# Altium schematic symbol library WE-SPXO.SchLib: 254 symbols (part 4 of 5)
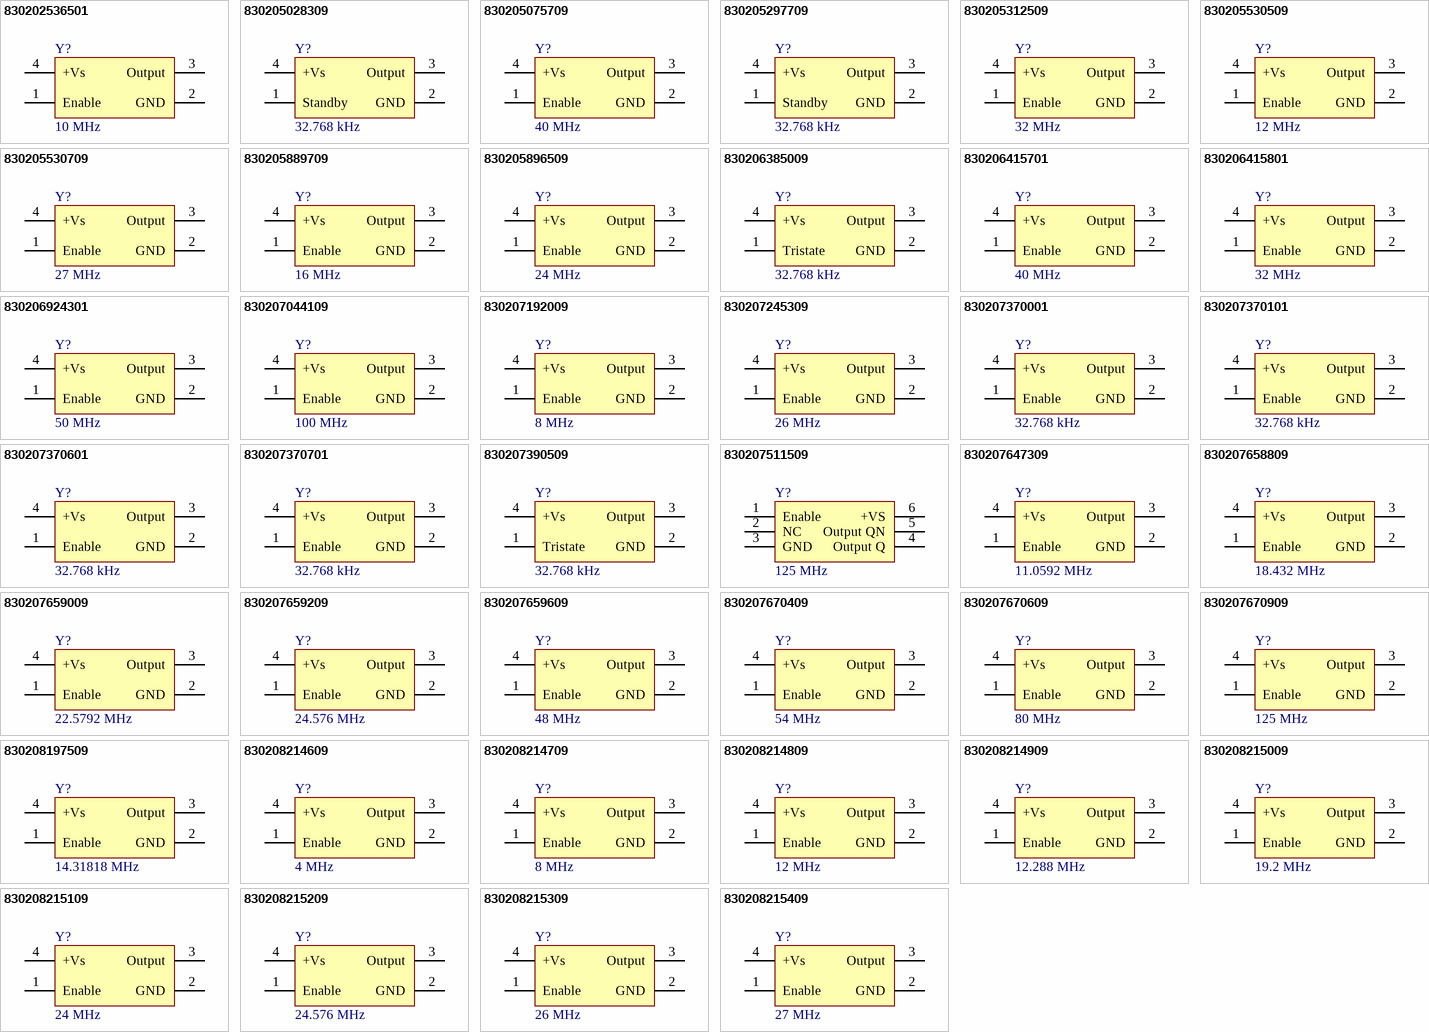
[diagram p9: symbols 830202536501 to 830208215409]

## 830207044109
designator Y?, comment 100 MHz
WE-SPXO Simple Packaged Quartz Oscillator, CFPS-39, 100 MHz, 25 ppm, 3.3 V; Manufacturer Part Number: 830207044109; Manufacturer: Wurth Elektronik; Frequency Stability: 25 ppm; Output Logic: CMOS; Supply Voltage: 3.3 V; Category: Oscillators; Match Code: WE-SPXO; ComponentLink1Description: Website Link; ComponentLink1URL: https://www.we-online.com/redexpert/article/830207044109?ad; ComponentLink2Description: Datasheet Link; ComponentLink2URL: https://www.we-online.com/redexpert/spec/830207044109?ad; Mount: Surface Mount; Min Operating Temperature: -40 °C; Max Operating Temperature: 85 °C; Packaging: Tape and Reel; Case/Size Code: CFPS-39; Length: 3.2 mm; Width: 2.5 mm; Height: 1.2 mm; Application: Processor, Ethernet, PCI Express, PHY; Frequency: 100 MHz
footprint WE-SPXO_CFPS-39
pins: 1 Enable, 2 GND, 3 Output, 4 +Vs

## 830207192009
designator Y?, comment 8 MHz
WE-SPXO Simple Packaged Quartz Oscillator, CFPS-39, 8 MHz, 25 ppm, 3.3 V; Manufacturer Part Number: 830207192009; Manufacturer: Wurth Elektronik; Frequency Stability: 25 ppm; Output Logic: CMOS; Supply Voltage: 3.3 V; Category: Oscillators; Match Code: WE-SPXO; ComponentLink1Description: Website Link; ComponentLink1URL: https://www.we-online.com/redexpert/article/830207192009?ad; ComponentLink2Description: Datasheet Link; ComponentLink2URL: https://www.we-online.com/redexpert/spec/830207192009?ad; Mount: Surface Mount; Min Operating Temperature: -40 °C; Max Operating Temperature: 85 °C; Packaging: Tape and Reel; Case/Size Code: CFPS-39; Length: 3.2 mm; Width: 2.5 mm; Height: 1.2 mm; Application: Processor, UART; Frequency: 8 MHz
footprint WE-SPXO_CFPS-39
pins: 1 Enable, 2 GND, 3 Output, 4 +Vs

## 830207245309
designator Y?, comment 26 MHz
WE-SPXO Simple Packaged Quartz Oscillator, CFPS-39, 26 MHz, 25 ppm, 3.3 V; Manufacturer Part Number: 830207245309; Manufacturer: Wurth Elektronik; Frequency Stability: 25 ppm; Output Logic: CMOS; Supply Voltage: 3.3 V; Category: Oscillators; Match Code: WE-SPXO; ComponentLink1Description: Website Link; ComponentLink1URL: https://www.we-online.com/redexpert/article/830207245309?ad; ComponentLink2Description: Datasheet Link; ComponentLink2URL: https://www.we-online.com/redexpert/spec/830207245309?ad; Mount: Surface Mount; Min Operating Temperature: -40 °C; Max Operating Temperature: 85 °C; Packaging: Tape and Reel; Case/Size Code: CFPS-39; Length: 3.2 mm; Width: 2.5 mm; Height: 1.2 mm; Application: CAN, Bluetooth, GPS, Small Cell; Frequency: 26 MHz
footprint WE-SPXO_CFPS-39
pins: 1 Enable, 2 GND, 3 Output, 4 +Vs

## 830207370001
designator Y?, comment 32.768 kHz
WE-SPXO Simple Packaged Quartz Oscillator, IQXO-402, 32.768 kHz, 30 ppm, 3.3 V; Manufacturer Part Number: 830207370001; Manufacturer: Wurth Elektronik; Frequency Stability: 30 ppm; Output Logic: CMOS; Supply Voltage: 3.3 V; Category: Oscillators; Match Code: WE-SPXO; ComponentLink1Description: Website Link; ComponentLink1URL: https://www.we-online.com/redexpert/article/830207370001?ad; ComponentLink2Description: Datasheet Link; ComponentLink2URL: https://www.we-online.com/redexpert/spec/830207370001?ad; Mount: Surface Mount; Min Operating Temperature: -40 °C; Max Operating Temperature: 85 °C; Packaging: Tape and Reel; Case/Size Code: IQXO-402; Length: 2 mm; Width: 1.6 mm; Height: 0.8 mm; Application: Real Time Clock; Frequency: 32.768 kHz
footprint WE-SPXO_IQXO-402
pins: 1 Enable, 2 GND, 3 Output, 4 +Vs

## 830207370101
designator Y?, comment 32.768 kHz
WE-SPXO Simple Packaged Quartz Oscillator, IQXO-402, 32.768 kHz, 100 ppm, 3.3 V; Manufacturer Part Number: 830207370101; Manufacturer: Wurth Elektronik; Frequency Stability: 100 ppm; Output Logic: CMOS; Supply Voltage: 3.3 V; Category: Oscillators; Match Code: WE-SPXO; ComponentLink1Description: Website Link; ComponentLink1URL: https://www.we-online.com/redexpert/article/830207370101?ad; ComponentLink2Description: Datasheet Link; ComponentLink2URL: https://www.we-online.com/redexpert/spec/830207370101?ad; Mount: Surface Mount; Min Operating Temperature: -40 °C; Max Operating Temperature: 125 °C; Packaging: Tape and Reel; Case/Size Code: IQXO-402; Length: 2 mm; Width: 1.6 mm; Height: 0.8 mm; Application: Real Time Clock; Frequency: 32.768 kHz
footprint WE-SPXO_IQXO-402
pins: 1 Enable, 2 GND, 3 Output, 4 +Vs

## 830207370601
designator Y?, comment 32.768 kHz
WE-SPXO Simple Packaged Quartz Oscillator, IQXO-404, 32.768 kHz, 30 ppm, 1.8 V; Manufacturer Part Number: 830207370601; Manufacturer: Wurth Elektronik; Frequency Stability: 30 ppm; Output Logic: CMOS; Supply Voltage: 1.8 V; Category: Oscillators; Match Code: WE-SPXO; ComponentLink1Description: Website Link; ComponentLink1URL: https://www.we-online.com/redexpert/article/830207370601?ad; ComponentLink2Description: Datasheet Link; ComponentLink2URL: https://www.we-online.com/redexpert/spec/830207370601?ad; Mount: Surface Mount; Min Operating Temperature: -40 °C; Max Operating Temperature: 85 °C; Packaging: Tape and Reel; Case/Size Code: IQXO-404; Length: 2 mm; Width: 1.6 mm; Height: 0.8 mm; Application: Real Time Clock; Frequency: 32.768 kHz
footprint WE-SPXO_IQXO-404
pins: 1 Enable, 2 GND, 3 Output, 4 +Vs

## 830207370701
designator Y?, comment 32.768 kHz
WE-SPXO Simple Packaged Quartz Oscillator, IQXO-404, 32.768 kHz, 100 ppm, 1.8 V; Manufacturer Part Number: 830207370701; Manufacturer: Wurth Elektronik; Frequency Stability: 100 ppm; Output Logic: CMOS; Supply Voltage: 1.8 V; Category: Oscillators; Match Code: WE-SPXO; ComponentLink1Description: Website Link; ComponentLink1URL: https://www.we-online.com/redexpert/article/830207370701?ad; ComponentLink2Description: Datasheet Link; ComponentLink2URL: https://www.we-online.com/redexpert/spec/830207370701?ad; Mount: Surface Mount; Min Operating Temperature: -40 °C; Max Operating Temperature: 125 °C; Packaging: Tape and Reel; Case/Size Code: IQXO-404; Length: 2 mm; Width: 1.6 mm; Height: 0.8 mm; Application: Real Time Clock; Frequency: 32.768 kHz
footprint WE-SPXO_IQXO-404
pins: 1 Enable, 2 GND, 3 Output, 4 +Vs

## 830207390509
designator Y?, comment 32.768 kHz
WE-SPXO Simple Packaged Quartz Oscillator, CFPS-109, 32.768 kHz, 30 ppm, 3.3 V; Manufacturer Part Number: 830207390509; Manufacturer: Wurth Elektronik; Frequency Stability: 30 ppm; Output Logic: CMOS; Supply Voltage: 3.3 V; Category: Oscillators; Match Code: WE-SPXO; ComponentLink1Description: Website Link; ComponentLink1URL: https://www.we-online.com/redexpert/article/830207390509?ad; ComponentLink2Description: Datasheet Link; ComponentLink2URL: https://www.we-online.com/redexpert/spec/830207390509?ad; Mount: Surface Mount; Min Operating Temperature: -40 °C; Max Operating Temperature: 85 °C; Packaging: Tape and Reel; Case/Size Code: CFPS-109; Length: 2.5 mm; Width: 2 mm; Height: 0.95 mm; Application: Real Time Clock; Frequency: 32.768 kHz
footprint WE-SPXO_CFPS-109
pins: 1 Tristate, 2 GND, 3 Output, 4 +Vs

## 830207511509
designator Y?, comment 125 MHz
WE-SPXO Simple Packaged Quartz Oscillator, IQXO-618-25, 125 MHz, 50 ppm, 2.5 V; Manufacturer Part Number: 830207511509; Manufacturer: Wurth Elektronik; Frequency Stability: 50 ppm; Output Logic: LVDS; Supply Voltage: 2.5 V; Category: Oscillators; Match Code: WE-SPXO; ComponentLink1Description: Website Link; ComponentLink1URL: https://www.we-online.com/redexpert/article/830207511509?ad; ComponentLink2Description: Datasheet Link; ComponentLink2URL: https://www.we-online.com/redexpert/spec/830207511509?ad; Mount: Surface Mount; Min Operating Temperature: -40 °C; Max Operating Temperature: 105 °C; Packaging: Tape and Reel; Case/Size Code: IQXO-618-25; Length: 3.2 mm; Width: 2.5 mm; Height: 1.1 mm; Application: Ethernet, PHY; Frequency: 125 MHz
footprint WE-SPXO_IQXO-618-25
pins: 1 Enable, 2 NC, 3 GND, 4 Output Q, 5 Output QN, 6 +VS

## 830207647309
designator Y?, comment 11.0592 MHz
WE-SPXO Simple Packaged Quartz Oscillator, CFPS-39, 11.0592 MHz, 25 ppm, 3.3 V; Manufacturer Part Number: 830207647309; Manufacturer: Wurth Elektronik; Frequency Stability: 25 ppm; Output Logic: CMOS; Supply Voltage: 3.3 V; Category: Oscillators; Match Code: WE-SPXO; ComponentLink1Description: Website Link; ComponentLink1URL: https://www.we-online.com/redexpert/article/830207647309?ad; ComponentLink2Description: Datasheet Link; ComponentLink2URL: https://www.we-online.com/redexpert/spec/830207647309?ad; Mount: Surface Mount; Min Operating Temperature: -40 °C; Max Operating Temperature: 85 °C; Packaging: Tape and Reel; Case/Size Code: CFPS-39; Length: 3.2 mm; Width: 2.5 mm; Height: 1.2 mm; Application: Processor, UART; Frequency: 11.0592 MHz
footprint WE-SPXO_CFPS-39
pins: 1 Enable, 2 GND, 3 Output, 4 +Vs

## 830207658809
designator Y?, comment 18.432 MHz
WE-SPXO Simple Packaged Quartz Oscillator, CFPS-39, 18.432 MHz, 25 ppm, 3.3 V; Manufacturer Part Number: 830207658809; Manufacturer: Wurth Elektronik; Frequency Stability: 25 ppm; Output Logic: CMOS; Supply Voltage: 3.3 V; Category: Oscillators; Match Code: WE-SPXO; ComponentLink1Description: Website Link; ComponentLink1URL: https://www.we-online.com/redexpert/article/830207658809?ad; ComponentLink2Description: Datasheet Link; ComponentLink2URL: https://www.we-online.com/redexpert/spec/830207658809?ad; Mount: Surface Mount; Min Operating Temperature: -40 °C; Max Operating Temperature: 85 °C; Packaging: Tape and Reel; Case/Size Code: CFPS-39; Length: 3.2 mm; Width: 2.5 mm; Height: 1.2 mm; Application: UART, Audio; Frequency: 18.432 MHz
footprint WE-SPXO_CFPS-39
pins: 1 Enable, 2 GND, 3 Output, 4 +Vs

## 830207659009
designator Y?, comment 22.5792 MHz
WE-SPXO Simple Packaged Quartz Oscillator, CFPS-39, 22.5792 MHz, 25 ppm, 3.3 V; Manufacturer Part Number: 830207659009; Manufacturer: Wurth Elektronik; Frequency Stability: 25 ppm; Output Logic: CMOS; Supply Voltage: 3.3 V; Category: Oscillators; Match Code: WE-SPXO; ComponentLink1Description: Website Link; ComponentLink1URL: https://www.we-online.com/redexpert/article/830207659009?ad; ComponentLink2Description: Datasheet Link; ComponentLink2URL: https://www.we-online.com/redexpert/spec/830207659009?ad; Mount: Surface Mount; Min Operating Temperature: -40 °C; Max Operating Temperature: 85 °C; Packaging: Tape and Reel; Case/Size Code: CFPS-39; Length: 3.2 mm; Width: 2.5 mm; Height: 1.2 mm; Application: Audio; Frequency: 22.5792 MHz
footprint WE-SPXO_CFPS-39
pins: 1 Enable, 2 GND, 3 Output, 4 +Vs

## 830207659209
designator Y?, comment 24.576 MHz
WE-SPXO Simple Packaged Quartz Oscillator, CFPS-39, 24.576 MHz, 25 ppm, 3.3 V; Manufacturer Part Number: 830207659209; Manufacturer: Wurth Elektronik; Frequency Stability: 25 ppm; Output Logic: CMOS; Supply Voltage: 3.3 V; Category: Oscillators; Match Code: WE-SPXO; ComponentLink1Description: Website Link; ComponentLink1URL: https://www.we-online.com/redexpert/article/830207659209?ad; ComponentLink2Description: Datasheet Link; ComponentLink2URL: https://www.we-online.com/redexpert/spec/830207659209?ad; Mount: Surface Mount; Min Operating Temperature: -40 °C; Max Operating Temperature: 85 °C; Packaging: Tape and Reel; Case/Size Code: CFPS-39; Length: 3.2 mm; Width: 2.5 mm; Height: 1.2 mm; Application: UART, Audio; Frequency: 24.576 MHz
footprint WE-SPXO_CFPS-39
pins: 1 Enable, 2 GND, 3 Output, 4 +Vs

## 830207659609
designator Y?, comment 48 MHz
WE-SPXO Simple Packaged Quartz Oscillator, CFPS-39, 48 MHz, 25 ppm, 3.3 V; Manufacturer Part Number: 830207659609; Manufacturer: Wurth Elektronik; Frequency Stability: 25 ppm; Output Logic: CMOS; Supply Voltage: 3.3 V; Category: Oscillators; Match Code: WE-SPXO; ComponentLink1Description: Website Link; ComponentLink1URL: https://www.we-online.com/redexpert/article/830207659609?ad; ComponentLink2Description: Datasheet Link; ComponentLink2URL: https://www.we-online.com/redexpert/spec/830207659609?ad; Mount: Surface Mount; Min Operating Temperature: -40 °C; Max Operating Temperature: 85 °C; Packaging: Tape and Reel; Case/Size Code: CFPS-39; Length: 3.2 mm; Width: 2.5 mm; Height: 1.2 mm; Application: Processor, USB, Wi-Fi; Frequency: 48 MHz
footprint WE-SPXO_CFPS-39
pins: 1 Enable, 2 GND, 3 Output, 4 +Vs

## 830207670409
designator Y?, comment 54 MHz
WE-SPXO Simple Packaged Quartz Oscillator, CFPS-39, 54 MHz, 25 ppm, 3.3 V; Manufacturer Part Number: 830207670409; Manufacturer: Wurth Elektronik; Frequency Stability: 25 ppm; Output Logic: CMOS; Supply Voltage: 3.3 V; Category: Oscillators; Match Code: WE-SPXO; ComponentLink1Description: Website Link; ComponentLink1URL: https://www.we-online.com/redexpert/article/830207670409?ad; ComponentLink2Description: Datasheet Link; ComponentLink2URL: https://www.we-online.com/redexpert/spec/830207670409?ad; Mount: Surface Mount; Min Operating Temperature: -40 °C; Max Operating Temperature: 85 °C; Packaging: Tape and Reel; Case/Size Code: CFPS-39; Length: 3.2 mm; Width: 2.5 mm; Height: 1.2 mm; Application: Processor; Frequency: 54 MHz
footprint WE-SPXO_CFPS-39
pins: 1 Enable, 2 GND, 3 Output, 4 +Vs

## 830207670609
designator Y?, comment 80 MHz
WE-SPXO Simple Packaged Quartz Oscillator, CFPS-39, 80 MHz, 25 ppm, 3.3 V; Manufacturer Part Number: 830207670609; Manufacturer: Wurth Elektronik; Frequency Stability: 25 ppm; Output Logic: CMOS; Supply Voltage: 3.3 V; Category: Oscillators; Match Code: WE-SPXO; ComponentLink1Description: Website Link; ComponentLink1URL: https://www.we-online.com/redexpert/article/830207670609?ad; ComponentLink2Description: Datasheet Link; ComponentLink2URL: https://www.we-online.com/redexpert/spec/830207670609?ad; Mount: Surface Mount; Min Operating Temperature: -40 °C; Max Operating Temperature: 85 °C; Packaging: Tape and Reel; Case/Size Code: CFPS-39; Length: 3.2 mm; Width: 2.5 mm; Height: 1.2 mm; Application: Processor, Audio; Frequency: 80 MHz
footprint WE-SPXO_CFPS-39
pins: 1 Enable, 2 GND, 3 Output, 4 +Vs

## 830207670909
designator Y?, comment 125 MHz
WE-SPXO Simple Packaged Quartz Oscillator, CFPS-39, 125 MHz, 25 ppm, 3.3 V; Manufacturer Part Number: 830207670909; Manufacturer: Wurth Elektronik; Frequency Stability: 25 ppm; Output Logic: CMOS; Supply Voltage: 3.3 V; Category: Oscillators; Match Code: WE-SPXO; ComponentLink1Description: Website Link; ComponentLink1URL: https://www.we-online.com/redexpert/article/830207670909?ad; ComponentLink2Description: Datasheet Link; ComponentLink2URL: https://www.we-online.com/redexpert/spec/830207670909?ad; Mount: Surface Mount; Min Operating Temperature: -40 °C; Max Operating Temperature: 85 °C; Packaging: Tape and Reel; Case/Size Code: CFPS-39; Length: 3.2 mm; Width: 2.5 mm; Height: 1.2 mm; Application: Ethernet, PHY; Frequency: 125 MHz
footprint WE-SPXO_CFPS-39
pins: 1 Enable, 2 GND, 3 Output, 4 +Vs

## 830208197509
designator Y?, comment 14.31818 MHz
WE-SPXO Simple Packaged Quartz Oscillator, CFPS-39, 14.31818 MHz, 25 ppm, 3.3 V; Manufacturer Part Number: 830208197509; Manufacturer: Wurth Elektronik; Frequency Stability: 25 ppm; Output Logic: CMOS; Supply Voltage: 3.3 V; Category: Oscillators; Match Code: WE-SPXO; ComponentLink1Description: Website Link; ComponentLink1URL: https://www.we-online.com/redexpert/article/830208197509?ad; ComponentLink2Description: Datasheet Link; ComponentLink2URL: https://www.we-online.com/redexpert/spec/830208197509?ad; Mount: Surface Mount; Min Operating Temperature: -40 °C; Max Operating Temperature: 85 °C; Packaging: Tape and Reel; Case/Size Code: CFPS-39; Length: 3.2 mm; Width: 2.5 mm; Height: 1.2 mm; Application: Processor; Frequency: 14.31818 MHz
footprint WE-SPXO_CFPS-39
pins: 1 Enable, 2 GND, 3 Output, 4 +Vs

## 830208214609
designator Y?, comment 4 MHz
WE-SPXO Simple Packaged Quartz Oscillator, IQXO-540, 4 MHz, 25 ppm, 3.3 V; Manufacturer Part Number: 830208214609; Manufacturer: Wurth Elektronik; Frequency Stability: 25 ppm; Output Logic: CMOS; Supply Voltage: 3.3 V; Category: Oscillators; Match Code: WE-SPXO; ComponentLink1Description: Website Link; ComponentLink1URL: https://www.we-online.com/redexpert/article/830208214609?ad; ComponentLink2Description: Datasheet Link; ComponentLink2URL: https://www.we-online.com/redexpert/spec/830208214609?ad; Mount: Surface Mount; Min Operating Temperature: -20 °C; Max Operating Temperature: 70 °C; Packaging: Tape and Reel; Case/Size Code: IQXO-540; Length: 2 mm; Width: 1.6 mm; Height: 0.8 mm; Application: CAN, Processor; Frequency: 4 MHz
footprint WE-SPXO_IQXO-540
pins: 1 Enable, 2 GND, 3 Output, 4 +Vs

## 830208214709
designator Y?, comment 8 MHz
WE-SPXO Simple Packaged Quartz Oscillator, IQXO-540, 8 MHz, 25 ppm, 3.3 V; Manufacturer Part Number: 830208214709; Manufacturer: Wurth Elektronik; Frequency Stability: 25 ppm; Output Logic: CMOS; Supply Voltage: 3.3 V; Category: Oscillators; Match Code: WE-SPXO; ComponentLink1Description: Website Link; ComponentLink1URL: https://www.we-online.com/redexpert/article/830208214709?ad; ComponentLink2Description: Datasheet Link; ComponentLink2URL: https://www.we-online.com/redexpert/spec/830208214709?ad; Mount: Surface Mount; Min Operating Temperature: -20 °C; Max Operating Temperature: 70 °C; Packaging: Tape and Reel; Case/Size Code: IQXO-540; Length: 2 mm; Width: 1.6 mm; Height: 0.8 mm; Application: Processor, UART; Frequency: 8 MHz
footprint WE-SPXO_IQXO-540
pins: 1 Enable, 2 GND, 3 Output, 4 +Vs

## 830208214809
designator Y?, comment 12 MHz
WE-SPXO Simple Packaged Quartz Oscillator, IQXO-540, 12 MHz, 25 ppm, 3.3 V; Manufacturer Part Number: 830208214809; Manufacturer: Wurth Elektronik; Frequency Stability: 25 ppm; Output Logic: CMOS; Supply Voltage: 3.3 V; Category: Oscillators; Match Code: WE-SPXO; ComponentLink1Description: Website Link; ComponentLink1URL: https://www.we-online.com/redexpert/article/830208214809?ad; ComponentLink2Description: Datasheet Link; ComponentLink2URL: https://www.we-online.com/redexpert/spec/830208214809?ad; Mount: Surface Mount; Min Operating Temperature: -20 °C; Max Operating Temperature: 70 °C; Packaging: Tape and Reel; Case/Size Code: IQXO-540; Length: 2 mm; Width: 1.6 mm; Height: 0.8 mm; Application: Processor, USB, CAN; Frequency: 12 MHz
footprint WE-SPXO_IQXO-540
pins: 1 Enable, 2 GND, 3 Output, 4 +Vs

## 830208214909
designator Y?, comment 12.288 MHz
WE-SPXO Simple Packaged Quartz Oscillator, IQXO-540, 12.288 MHz, 25 ppm, 3.3 V; Manufacturer Part Number: 830208214909; Manufacturer: Wurth Elektronik; Frequency Stability: 25 ppm; Output Logic: CMOS; Supply Voltage: 3.3 V; Category: Oscillators; Match Code: WE-SPXO; ComponentLink1Description: Website Link; ComponentLink1URL: https://www.we-online.com/redexpert/article/830208214909?ad; ComponentLink2Description: Datasheet Link; ComponentLink2URL: https://www.we-online.com/redexpert/spec/830208214909?ad; Mount: Surface Mount; Min Operating Temperature: -20 °C; Max Operating Temperature: 70 °C; Packaging: Tape and Reel; Case/Size Code: IQXO-540; Length: 2 mm; Width: 1.6 mm; Height: 0.8 mm; Application: UART, Audio; Frequency: 12.288 MHz
footprint WE-SPXO_IQXO-540
pins: 1 Enable, 2 GND, 3 Output, 4 +Vs

## 830208215009
designator Y?, comment 19.2 MHz
WE-SPXO Simple Packaged Quartz Oscillator, IQXO-540, 19.2 MHz, 25 ppm, 3.3 V; Manufacturer Part Number: 830208215009; Manufacturer: Wurth Elektronik; Frequency Stability: 25 ppm; Output Logic: CMOS; Supply Voltage: 3.3 V; Category: Oscillators; Match Code: WE-SPXO; ComponentLink1Description: Website Link; ComponentLink1URL: https://www.we-online.com/redexpert/article/830208215009?ad; ComponentLink2Description: Datasheet Link; ComponentLink2URL: https://www.we-online.com/redexpert/spec/830208215009?ad; Mount: Surface Mount; Min Operating Temperature: -20 °C; Max Operating Temperature: 70 °C; Packaging: Tape and Reel; Case/Size Code: IQXO-540; Length: 2 mm; Width: 1.6 mm; Height: 0.8 mm; Application: UART, 3G/4G/5G, Small Cell; Frequency: 19.2 MHz
footprint WE-SPXO_IQXO-540
pins: 1 Enable, 2 GND, 3 Output, 4 +Vs

## 830208215109
designator Y?, comment 24 MHz
WE-SPXO Simple Packaged Quartz Oscillator, IQXO-540, 24 MHz, 25 ppm, 3.3 V; Manufacturer Part Number: 830208215109; Manufacturer: Wurth Elektronik; Frequency Stability: 25 ppm; Output Logic: CMOS; Supply Voltage: 3.3 V; Category: Oscillators; Match Code: WE-SPXO; ComponentLink1Description: Website Link; ComponentLink1URL: https://www.we-online.com/redexpert/article/830208215109?ad; ComponentLink2Description: Datasheet Link; ComponentLink2URL: https://www.we-online.com/redexpert/spec/830208215109?ad; Mount: Surface Mount; Min Operating Temperature: -20 °C; Max Operating Temperature: 70 °C; Packaging: Tape and Reel; Case/Size Code: IQXO-540; Length: 2 mm; Width: 1.6 mm; Height: 0.8 mm; Application: Processor, USB, Bluetooth; Frequency: 24 MHz
footprint WE-SPXO_IQXO-540
pins: 1 Enable, 2 GND, 3 Output, 4 +Vs

## 830208215209
designator Y?, comment 24.576 MHz
WE-SPXO Simple Packaged Quartz Oscillator, IQXO-540, 24.576 MHz, 25 ppm, 3.3 V; Manufacturer Part Number: 830208215209; Manufacturer: Wurth Elektronik; Frequency Stability: 25 ppm; Output Logic: CMOS; Supply Voltage: 3.3 V; Category: Oscillators; Match Code: WE-SPXO; ComponentLink1Description: Website Link; ComponentLink1URL: https://www.we-online.com/redexpert/article/830208215209?ad; ComponentLink2Description: Datasheet Link; ComponentLink2URL: https://www.we-online.com/redexpert/spec/830208215209?ad; Mount: Surface Mount; Min Operating Temperature: -20 °C; Max Operating Temperature: 70 °C; Packaging: Tape and Reel; Case/Size Code: IQXO-540; Length: 2 mm; Width: 1.6 mm; Height: 0.8 mm; Application: UART, Audio; Frequency: 24.576 MHz
footprint WE-SPXO_IQXO-540
pins: 1 Enable, 2 GND, 3 Output, 4 +Vs

## 830208215309
designator Y?, comment 26 MHz
WE-SPXO Simple Packaged Quartz Oscillator, IQXO-540, 26 MHz, 25 ppm, 3.3 V; Manufacturer Part Number: 830208215309; Manufacturer: Wurth Elektronik; Frequency Stability: 25 ppm; Output Logic: CMOS; Supply Voltage: 3.3 V; Category: Oscillators; Match Code: WE-SPXO; ComponentLink1Description: Website Link; ComponentLink1URL: https://www.we-online.com/redexpert/article/830208215309?ad; ComponentLink2Description: Datasheet Link; ComponentLink2URL: https://www.we-online.com/redexpert/spec/830208215309?ad; Mount: Surface Mount; Min Operating Temperature: -20 °C; Max Operating Temperature: 70 °C; Packaging: Tape and Reel; Case/Size Code: IQXO-540; Length: 2 mm; Width: 1.6 mm; Height: 0.8 mm; Application: CAN, Bluetooth, GPS, Small Cell; Frequency: 26 MHz
footprint WE-SPXO_IQXO-540
pins: 1 Enable, 2 GND, 3 Output, 4 +Vs

## 830208215409
designator Y?, comment 27 MHz
WE-SPXO Simple Packaged Quartz Oscillator, IQXO-540, 27 MHz, 25 ppm, 3.3 V; Manufacturer Part Number: 830208215409; Manufacturer: Wurth Elektronik; Frequency Stability: 25 ppm; Output Logic: CMOS; Supply Voltage: 3.3 V; Category: Oscillators; Match Code: WE-SPXO; ComponentLink1Description: Website Link; ComponentLink1URL: https://www.we-online.com/redexpert/article/830208215409?ad; ComponentLink2Description: Datasheet Link; ComponentLink2URL: https://www.we-online.com/redexpert/spec/830208215409?ad; Mount: Surface Mount; Min Operating Temperature: -20 °C; Max Operating Temperature: 70 °C; Packaging: Tape and Reel; Case/Size Code: IQXO-540; Length: 2 mm; Width: 1.6 mm; Height: 0.8 mm; Application: Processor; Frequency: 27 MHz
footprint WE-SPXO_IQXO-540
pins: 1 Enable, 2 GND, 3 Output, 4 +Vs

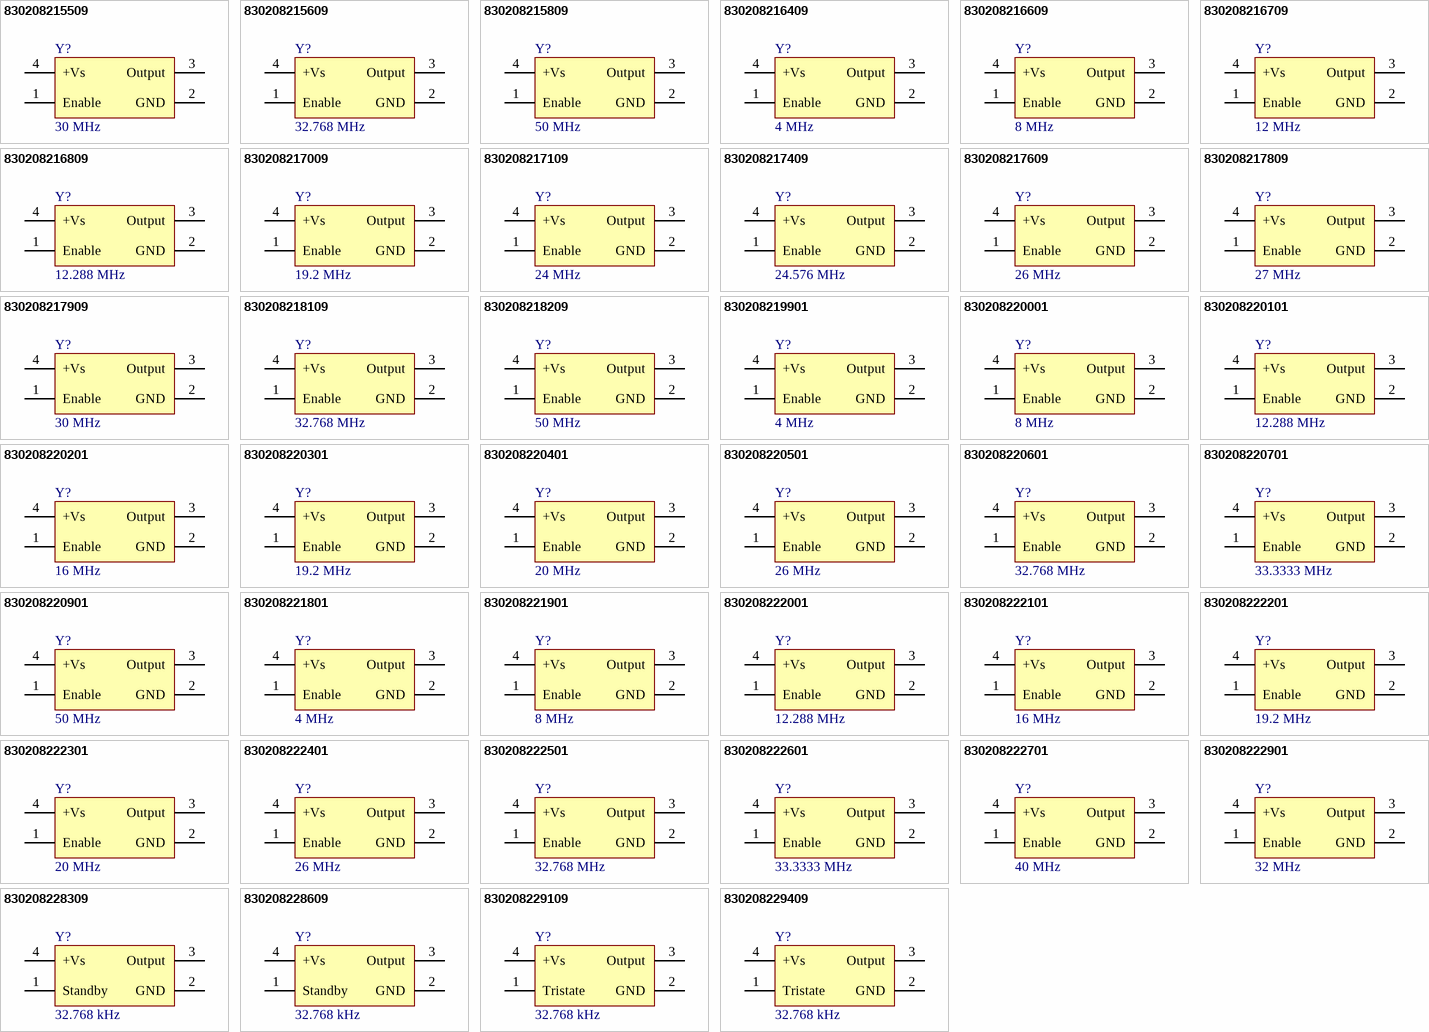
[diagram p5: symbols 830208215509 to 830208229409]

## 830208215509
designator Y?, comment 30 MHz
WE-SPXO Simple Packaged Quartz Oscillator, IQXO-540, 30 MHz, 25 ppm, 3.3 V; Manufacturer Part Number: 830208215509; Manufacturer: Wurth Elektronik; Frequency Stability: 25 ppm; Output Logic: CMOS; Supply Voltage: 3.3 V; Category: Oscillators; Match Code: WE-SPXO; ComponentLink1Description: Website Link; ComponentLink1URL: https://www.we-online.com/redexpert/article/830208215509?ad; ComponentLink2Description: Datasheet Link; ComponentLink2URL: https://www.we-online.com/redexpert/spec/830208215509?ad; Mount: Surface Mount; Min Operating Temperature: -20 °C; Max Operating Temperature: 70 °C; Packaging: Tape and Reel; Case/Size Code: IQXO-540; Length: 2 mm; Width: 1.6 mm; Height: 0.8 mm; Application: Processor, USB; Frequency: 30 MHz
footprint WE-SPXO_IQXO-540
pins: 1 Enable, 2 GND, 3 Output, 4 +Vs

## 830208215609
designator Y?, comment 32.768 MHz
WE-SPXO Simple Packaged Quartz Oscillator, IQXO-540, 32.768 MHz, 25 ppm, 3.3 V; Manufacturer Part Number: 830208215609; Manufacturer: Wurth Elektronik; Frequency Stability: 25 ppm; Output Logic: CMOS; Supply Voltage: 3.3 V; Category: Oscillators; Match Code: WE-SPXO; ComponentLink1Description: Website Link; ComponentLink1URL: https://www.we-online.com/redexpert/article/830208215609?ad; ComponentLink2Description: Datasheet Link; ComponentLink2URL: https://www.we-online.com/redexpert/spec/830208215609?ad; Mount: Surface Mount; Min Operating Temperature: -20 °C; Max Operating Temperature: 70 °C; Packaging: Tape and Reel; Case/Size Code: IQXO-540; Length: 2 mm; Width: 1.6 mm; Height: 0.8 mm; Application: Processor; Frequency: 32.768 MHz
footprint WE-SPXO_IQXO-540
pins: 1 Enable, 2 GND, 3 Output, 4 +Vs

## 830208215809
designator Y?, comment 50 MHz
WE-SPXO Simple Packaged Quartz Oscillator, IQXO-540, 50 MHz, 25 ppm, 3.3 V; Manufacturer Part Number: 830208215809; Manufacturer: Wurth Elektronik; Frequency Stability: 25 ppm; Output Logic: CMOS; Supply Voltage: 3.3 V; Category: Oscillators; Match Code: WE-SPXO; ComponentLink1Description: Website Link; ComponentLink1URL: https://www.we-online.com/redexpert/article/830208215809?ad; ComponentLink2Description: Datasheet Link; ComponentLink2URL: https://www.we-online.com/redexpert/spec/830208215809?ad; Mount: Surface Mount; Min Operating Temperature: -20 °C; Max Operating Temperature: 70 °C; Packaging: Tape and Reel; Case/Size Code: IQXO-540; Length: 2 mm; Width: 1.6 mm; Height: 0.8 mm; Application: Processor, Ethernet, PCI Express, PHY; Frequency: 50 MHz
footprint WE-SPXO_IQXO-540
pins: 1 Enable, 2 GND, 3 Output, 4 +Vs

## 830208216409
designator Y?, comment 4 MHz
WE-SPXO Simple Packaged Quartz Oscillator, IQXO-542, 4 MHz, 25 ppm, 1.8 V; Manufacturer Part Number: 830208216409; Manufacturer: Wurth Elektronik; Frequency Stability: 25 ppm; Output Logic: CMOS; Supply Voltage: 1.8 V; Category: Oscillators; Match Code: WE-SPXO; ComponentLink1Description: Website Link; ComponentLink1URL: https://www.we-online.com/redexpert/article/830208216409?ad; ComponentLink2Description: Datasheet Link; ComponentLink2URL: https://www.we-online.com/redexpert/spec/830208216409?ad; Mount: Surface Mount; Min Operating Temperature: -20 °C; Max Operating Temperature: 70 °C; Packaging: Tape and Reel; Case/Size Code: IQXO-542; Length: 2 mm; Width: 1.6 mm; Height: 0.8 mm; Application: CAN, Processor; Frequency: 4 MHz
footprint WE-SPXO_IQXO-542
pins: 1 Enable, 2 GND, 3 Output, 4 +Vs

## 830208216609
designator Y?, comment 8 MHz
WE-SPXO Simple Packaged Quartz Oscillator, IQXO-542, 8 MHz, 25 ppm, 1.8 V; Manufacturer Part Number: 830208216609; Manufacturer: Wurth Elektronik; Frequency Stability: 25 ppm; Output Logic: CMOS; Supply Voltage: 1.8 V; Category: Oscillators; Match Code: WE-SPXO; ComponentLink1Description: Website Link; ComponentLink1URL: https://www.we-online.com/redexpert/article/830208216609?ad; ComponentLink2Description: Datasheet Link; ComponentLink2URL: https://www.we-online.com/redexpert/spec/830208216609?ad; Mount: Surface Mount; Min Operating Temperature: -20 °C; Max Operating Temperature: 70 °C; Packaging: Tape and Reel; Case/Size Code: IQXO-542; Length: 2 mm; Width: 1.6 mm; Height: 0.8 mm; Application: Processor, UART; Frequency: 8 MHz
footprint WE-SPXO_IQXO-542
pins: 1 Enable, 2 GND, 3 Output, 4 +Vs

## 830208216709
designator Y?, comment 12 MHz
WE-SPXO Simple Packaged Quartz Oscillator, IQXO-542, 12 MHz, 25 ppm, 1.8 V; Manufacturer Part Number: 830208216709; Manufacturer: Wurth Elektronik; Frequency Stability: 25 ppm; Output Logic: CMOS; Supply Voltage: 1.8 V; Category: Oscillators; Match Code: WE-SPXO; ComponentLink1Description: Website Link; ComponentLink1URL: https://www.we-online.com/redexpert/article/830208216709?ad; ComponentLink2Description: Datasheet Link; ComponentLink2URL: https://www.we-online.com/redexpert/spec/830208216709?ad; Mount: Surface Mount; Min Operating Temperature: -20 °C; Max Operating Temperature: 70 °C; Packaging: Tape and Reel; Case/Size Code: IQXO-542; Length: 2 mm; Width: 1.6 mm; Height: 0.8 mm; Application: Processor, USB, CAN; Frequency: 12 MHz
footprint WE-SPXO_IQXO-542
pins: 1 Enable, 2 GND, 3 Output, 4 +Vs

## 830208216809
designator Y?, comment 12.288 MHz
WE-SPXO Simple Packaged Quartz Oscillator, IQXO-542, 12.288 MHz, 25 ppm, 1.8 V; Manufacturer Part Number: 830208216809; Manufacturer: Wurth Elektronik; Frequency Stability: 25 ppm; Output Logic: CMOS; Supply Voltage: 1.8 V; Category: Oscillators; Match Code: WE-SPXO; ComponentLink1Description: Website Link; ComponentLink1URL: https://www.we-online.com/redexpert/article/830208216809?ad; ComponentLink2Description: Datasheet Link; ComponentLink2URL: https://www.we-online.com/redexpert/spec/830208216809?ad; Mount: Surface Mount; Min Operating Temperature: -20 °C; Max Operating Temperature: 70 °C; Packaging: Tape and Reel; Case/Size Code: IQXO-542; Length: 2 mm; Width: 1.6 mm; Height: 0.8 mm; Application: UART, Audio; Frequency: 12.288 MHz
footprint WE-SPXO_IQXO-542
pins: 1 Enable, 2 GND, 3 Output, 4 +Vs

## 830208217009
designator Y?, comment 19.2 MHz
WE-SPXO Simple Packaged Quartz Oscillator, IQXO-542, 19.2 MHz, 25 ppm, 1.8 V; Manufacturer Part Number: 830208217009; Manufacturer: Wurth Elektronik; Frequency Stability: 25 ppm; Output Logic: CMOS; Supply Voltage: 1.8 V; Category: Oscillators; Match Code: WE-SPXO; ComponentLink1Description: Website Link; ComponentLink1URL: https://www.we-online.com/redexpert/article/830208217009?ad; ComponentLink2Description: Datasheet Link; ComponentLink2URL: https://www.we-online.com/redexpert/spec/830208217009?ad; Mount: Surface Mount; Min Operating Temperature: -20 °C; Max Operating Temperature: 70 °C; Packaging: Tape and Reel; Case/Size Code: IQXO-542; Length: 2 mm; Width: 1.6 mm; Height: 0.8 mm; Application: UART, 3G/4G/5G, Small Cell; Frequency: 19.2 MHz
footprint WE-SPXO_IQXO-542
pins: 1 Enable, 2 GND, 3 Output, 4 +Vs

## 830208217109
designator Y?, comment 24 MHz
WE-SPXO Simple Packaged Quartz Oscillator, IQXO-542, 24 MHz, 25 ppm, 1.8 V; Manufacturer Part Number: 830208217109; Manufacturer: Wurth Elektronik; Frequency Stability: 25 ppm; Output Logic: CMOS; Supply Voltage: 1.8 V; Category: Oscillators; Match Code: WE-SPXO; ComponentLink1Description: Website Link; ComponentLink1URL: https://www.we-online.com/redexpert/article/830208217109?ad; ComponentLink2Description: Datasheet Link; ComponentLink2URL: https://www.we-online.com/redexpert/spec/830208217109?ad; Mount: Surface Mount; Min Operating Temperature: -20 °C; Max Operating Temperature: 70 °C; Packaging: Tape and Reel; Case/Size Code: IQXO-542; Length: 2 mm; Width: 1.6 mm; Height: 0.8 mm; Application: Processor, USB, Bluetooth; Frequency: 24 MHz
footprint WE-SPXO_IQXO-542
pins: 1 Enable, 2 GND, 3 Output, 4 +Vs

## 830208217409
designator Y?, comment 24.576 MHz
WE-SPXO Simple Packaged Quartz Oscillator, IQXO-542, 24.576 MHz, 25 ppm, 1.8 V; Manufacturer Part Number: 830208217409; Manufacturer: Wurth Elektronik; Frequency Stability: 25 ppm; Output Logic: CMOS; Supply Voltage: 1.8 V; Category: Oscillators; Match Code: WE-SPXO; ComponentLink1Description: Website Link; ComponentLink1URL: https://www.we-online.com/redexpert/article/830208217409?ad; ComponentLink2Description: Datasheet Link; ComponentLink2URL: https://www.we-online.com/redexpert/spec/830208217409?ad; Mount: Surface Mount; Min Operating Temperature: -20 °C; Max Operating Temperature: 70 °C; Packaging: Tape and Reel; Case/Size Code: IQXO-542; Length: 2 mm; Width: 1.6 mm; Height: 0.8 mm; Application: UART, Audio; Frequency: 24.576 MHz
footprint WE-SPXO_IQXO-542
pins: 1 Enable, 2 GND, 3 Output, 4 +Vs

## 830208217609
designator Y?, comment 26 MHz
WE-SPXO Simple Packaged Quartz Oscillator, IQXO-542, 26 MHz, 25 ppm, 1.8 V; Manufacturer Part Number: 830208217609; Manufacturer: Wurth Elektronik; Frequency Stability: 25 ppm; Output Logic: CMOS; Supply Voltage: 1.8 V; Category: Oscillators; Match Code: WE-SPXO; ComponentLink1Description: Website Link; ComponentLink1URL: https://www.we-online.com/redexpert/article/830208217609?ad; ComponentLink2Description: Datasheet Link; ComponentLink2URL: https://www.we-online.com/redexpert/spec/830208217609?ad; Mount: Surface Mount; Min Operating Temperature: -20 °C; Max Operating Temperature: 70 °C; Packaging: Tape and Reel; Case/Size Code: IQXO-542; Length: 2 mm; Width: 1.6 mm; Height: 0.8 mm; Application: CAN, Bluetooth, GPS, Small Cell; Frequency: 26 MHz
footprint WE-SPXO_IQXO-542
pins: 1 Enable, 2 GND, 3 Output, 4 +Vs

## 830208217809
designator Y?, comment 27 MHz
WE-SPXO Simple Packaged Quartz Oscillator, IQXO-542, 27 MHz, 25 ppm, 1.8 V; Manufacturer Part Number: 830208217809; Manufacturer: Wurth Elektronik; Frequency Stability: 25 ppm; Output Logic: CMOS; Supply Voltage: 1.8 V; Category: Oscillators; Match Code: WE-SPXO; ComponentLink1Description: Website Link; ComponentLink1URL: https://www.we-online.com/redexpert/article/830208217809?ad; ComponentLink2Description: Datasheet Link; ComponentLink2URL: https://www.we-online.com/redexpert/spec/830208217809?ad; Mount: Surface Mount; Min Operating Temperature: -20 °C; Max Operating Temperature: 70 °C; Packaging: Tape and Reel; Case/Size Code: IQXO-542; Length: 2 mm; Width: 1.6 mm; Height: 0.8 mm; Application: Processor; Frequency: 27 MHz
footprint WE-SPXO_IQXO-542
pins: 1 Enable, 2 GND, 3 Output, 4 +Vs

## 830208217909
designator Y?, comment 30 MHz
WE-SPXO Simple Packaged Quartz Oscillator, IQXO-542, 30 MHz, 25 ppm, 1.8 V; Manufacturer Part Number: 830208217909; Manufacturer: Wurth Elektronik; Frequency Stability: 25 ppm; Output Logic: CMOS; Supply Voltage: 1.8 V; Category: Oscillators; Match Code: WE-SPXO; ComponentLink1Description: Website Link; ComponentLink1URL: https://www.we-online.com/redexpert/article/830208217909?ad; ComponentLink2Description: Datasheet Link; ComponentLink2URL: https://www.we-online.com/redexpert/spec/830208217909?ad; Mount: Surface Mount; Min Operating Temperature: -20 °C; Max Operating Temperature: 70 °C; Packaging: Tape and Reel; Case/Size Code: IQXO-542; Length: 2 mm; Width: 1.6 mm; Height: 0.8 mm; Application: Processor, USB; Frequency: 30 MHz
footprint WE-SPXO_IQXO-542
pins: 1 Enable, 2 GND, 3 Output, 4 +Vs

## 830208218109
designator Y?, comment 32.768 MHz
WE-SPXO Simple Packaged Quartz Oscillator, IQXO-542, 32.768 MHz, 25 ppm, 1.8 V; Manufacturer Part Number: 830208218109; Manufacturer: Wurth Elektronik; Frequency Stability: 25 ppm; Output Logic: CMOS; Supply Voltage: 1.8 V; Category: Oscillators; Match Code: WE-SPXO; ComponentLink1Description: Website Link; ComponentLink1URL: https://www.we-online.com/redexpert/article/830208218109?ad; ComponentLink2Description: Datasheet Link; ComponentLink2URL: https://www.we-online.com/redexpert/spec/830208218109?ad; Mount: Surface Mount; Min Operating Temperature: -20 °C; Max Operating Temperature: 70 °C; Packaging: Tape and Reel; Case/Size Code: IQXO-542; Length: 2 mm; Width: 1.6 mm; Height: 0.8 mm; Application: Processor; Frequency: 32.768 MHz
footprint WE-SPXO_IQXO-542
pins: 1 Enable, 2 GND, 3 Output, 4 +Vs

## 830208218209
designator Y?, comment 50 MHz
WE-SPXO Simple Packaged Quartz Oscillator, IQXO-542, 50 MHz, 25 ppm, 1.8 V; Manufacturer Part Number: 830208218209; Manufacturer: Wurth Elektronik; Frequency Stability: 25 ppm; Output Logic: CMOS; Supply Voltage: 1.8 V; Category: Oscillators; Match Code: WE-SPXO; ComponentLink1Description: Website Link; ComponentLink1URL: https://www.we-online.com/redexpert/article/830208218209?ad; ComponentLink2Description: Datasheet Link; ComponentLink2URL: https://www.we-online.com/redexpert/spec/830208218209?ad; Mount: Surface Mount; Min Operating Temperature: -20 °C; Max Operating Temperature: 70 °C; Packaging: Tape and Reel; Case/Size Code: IQXO-542; Length: 2 mm; Width: 1.6 mm; Height: 0.8 mm; Application: Processor, Ethernet, PCI Express, PHY; Frequency: 50 MHz
footprint WE-SPXO_IQXO-542
pins: 1 Enable, 2 GND, 3 Output, 4 +Vs

## 830208219901
designator Y?, comment 4 MHz
WE-SPXO Simple Packaged Quartz Oscillator, IQXO-791, 4 MHz, 25 ppm, 3.3 V; Manufacturer Part Number: 830208219901; Manufacturer: Wurth Elektronik; Frequency Stability: 25 ppm; Output Logic: CMOS; Supply Voltage: 3.3 V; Category: Oscillators; Match Code: WE-SPXO; ComponentLink1Description: Website Link; ComponentLink1URL: https://www.we-online.com/redexpert/article/830208219901?ad; ComponentLink2Description: Datasheet Link; ComponentLink2URL: https://www.we-online.com/redexpert/spec/830208219901?ad; Mount: Surface Mount; Min Operating Temperature: -20 °C; Max Operating Temperature: 70 °C; Packaging: Tape and Reel; Case/Size Code: IQXO-791; Length: 2.5 mm; Width: 2 mm; Height: 1 mm; Application: CAN, Processor; Frequency: 4 MHz
footprint WE-SPXO_IQXO-791
pins: 1 Enable, 2 GND, 3 Output, 4 +Vs

## 830208220001
designator Y?, comment 8 MHz
WE-SPXO Simple Packaged Quartz Oscillator, IQXO-791, 8 MHz, 25 ppm, 3.3 V; Manufacturer Part Number: 830208220001; Manufacturer: Wurth Elektronik; Frequency Stability: 25 ppm; Output Logic: CMOS; Supply Voltage: 3.3 V; Category: Oscillators; Match Code: WE-SPXO; ComponentLink1Description: Website Link; ComponentLink1URL: https://www.we-online.com/redexpert/article/830208220001?ad; ComponentLink2Description: Datasheet Link; ComponentLink2URL: https://www.we-online.com/redexpert/spec/830208220001?ad; Mount: Surface Mount; Min Operating Temperature: -20 °C; Max Operating Temperature: 70 °C; Packaging: Tape and Reel; Case/Size Code: IQXO-791; Length: 2.5 mm; Width: 2 mm; Height: 1 mm; Application: Processor, UART; Frequency: 8 MHz
footprint WE-SPXO_IQXO-791
pins: 1 Enable, 2 GND, 3 Output, 4 +Vs

## 830208220101
designator Y?, comment 12.288 MHz
WE-SPXO Simple Packaged Quartz Oscillator, IQXO-791, 12.288 MHz, 25 ppm, 3.3 V; Manufacturer Part Number: 830208220101; Manufacturer: Wurth Elektronik; Frequency Stability: 25 ppm; Output Logic: CMOS; Supply Voltage: 3.3 V; Category: Oscillators; Match Code: WE-SPXO; ComponentLink1Description: Website Link; ComponentLink1URL: https://www.we-online.com/redexpert/article/830208220101?ad; ComponentLink2Description: Datasheet Link; ComponentLink2URL: https://www.we-online.com/redexpert/spec/830208220101?ad; Mount: Surface Mount; Min Operating Temperature: -20 °C; Max Operating Temperature: 70 °C; Packaging: Tape and Reel; Case/Size Code: IQXO-791; Length: 2.5 mm; Width: 2 mm; Height: 1 mm; Application: UART, Audio; Frequency: 12.288 MHz
footprint WE-SPXO_IQXO-791
pins: 1 Enable, 2 GND, 3 Output, 4 +Vs

## 830208220201
designator Y?, comment 16 MHz
WE-SPXO Simple Packaged Quartz Oscillator, IQXO-791, 16 MHz, 25 ppm, 3.3 V; Manufacturer Part Number: 830208220201; Manufacturer: Wurth Elektronik; Frequency Stability: 25 ppm; Output Logic: CMOS; Supply Voltage: 3.3 V; Category: Oscillators; Match Code: WE-SPXO; ComponentLink1Description: Website Link; ComponentLink1URL: https://www.we-online.com/redexpert/article/830208220201?ad; ComponentLink2Description: Datasheet Link; ComponentLink2URL: https://www.we-online.com/redexpert/spec/830208220201?ad; Mount: Surface Mount; Min Operating Temperature: -20 °C; Max Operating Temperature: 70 °C; Packaging: Tape and Reel; Case/Size Code: IQXO-791; Length: 2.5 mm; Width: 2 mm; Height: 1 mm; Application: Processor, CAN, Bluetooth; Frequency: 16 MHz
footprint WE-SPXO_IQXO-791
pins: 1 Enable, 2 GND, 3 Output, 4 +Vs

## 830208220301
designator Y?, comment 19.2 MHz
WE-SPXO Simple Packaged Quartz Oscillator, IQXO-791, 19.2 MHz, 25 ppm, 3.3 V; Manufacturer Part Number: 830208220301; Manufacturer: Wurth Elektronik; Frequency Stability: 25 ppm; Output Logic: CMOS; Supply Voltage: 3.3 V; Category: Oscillators; Match Code: WE-SPXO; ComponentLink1Description: Website Link; ComponentLink1URL: https://www.we-online.com/redexpert/article/830208220301?ad; ComponentLink2Description: Datasheet Link; ComponentLink2URL: https://www.we-online.com/redexpert/spec/830208220301?ad; Mount: Surface Mount; Min Operating Temperature: -20 °C; Max Operating Temperature: 70 °C; Packaging: Tape and Reel; Case/Size Code: IQXO-791; Length: 2.5 mm; Width: 2 mm; Height: 1 mm; Application: UART, 3G/4G/5G, Small Cell; Frequency: 19.2 MHz
footprint WE-SPXO_IQXO-791
pins: 1 Enable, 2 GND, 3 Output, 4 +Vs

## 830208220401
designator Y?, comment 20 MHz
WE-SPXO Simple Packaged Quartz Oscillator, IQXO-791, 20 MHz, 25 ppm, 3.3 V; Manufacturer Part Number: 830208220401; Manufacturer: Wurth Elektronik; Frequency Stability: 25 ppm; Output Logic: CMOS; Supply Voltage: 3.3 V; Category: Oscillators; Match Code: WE-SPXO; ComponentLink1Description: Website Link; ComponentLink1URL: https://www.we-online.com/redexpert/article/830208220401?ad; ComponentLink2Description: Datasheet Link; ComponentLink2URL: https://www.we-online.com/redexpert/spec/830208220401?ad; Mount: Surface Mount; Min Operating Temperature: -20 °C; Max Operating Temperature: 70 °C; Packaging: Tape and Reel; Case/Size Code: IQXO-791; Length: 2.5 mm; Width: 2 mm; Height: 1 mm; Application: Processor, CAN, USB, Ethernet, Wi-Fi; Frequency: 20 MHz
footprint WE-SPXO_IQXO-791
pins: 1 Enable, 2 GND, 3 Output, 4 +Vs

## 830208220501
designator Y?, comment 26 MHz
WE-SPXO Simple Packaged Quartz Oscillator, IQXO-791, 26 MHz, 25 ppm, 3.3 V; Manufacturer Part Number: 830208220501; Manufacturer: Wurth Elektronik; Frequency Stability: 25 ppm; Output Logic: CMOS; Supply Voltage: 3.3 V; Category: Oscillators; Match Code: WE-SPXO; ComponentLink1Description: Website Link; ComponentLink1URL: https://www.we-online.com/redexpert/article/830208220501?ad; ComponentLink2Description: Datasheet Link; ComponentLink2URL: https://www.we-online.com/redexpert/spec/830208220501?ad; Mount: Surface Mount; Min Operating Temperature: -20 °C; Max Operating Temperature: 70 °C; Packaging: Tape and Reel; Case/Size Code: IQXO-791; Length: 2.5 mm; Width: 2 mm; Height: 1 mm; Application: CAN, Bluetooth, GPS, Small Cell; Frequency: 26 MHz
footprint WE-SPXO_IQXO-791
pins: 1 Enable, 2 GND, 3 Output, 4 +Vs

## 830208220601
designator Y?, comment 32.768 MHz
WE-SPXO Simple Packaged Quartz Oscillator, IQXO-791, 32.768 MHz, 25 ppm, 3.3 V; Manufacturer Part Number: 830208220601; Manufacturer: Wurth Elektronik; Frequency Stability: 25 ppm; Output Logic: CMOS; Supply Voltage: 3.3 V; Category: Oscillators; Match Code: WE-SPXO; ComponentLink1Description: Website Link; ComponentLink1URL: https://www.we-online.com/redexpert/article/830208220601?ad; ComponentLink2Description: Datasheet Link; ComponentLink2URL: https://www.we-online.com/redexpert/spec/830208220601?ad; Mount: Surface Mount; Min Operating Temperature: -20 °C; Max Operating Temperature: 70 °C; Packaging: Tape and Reel; Case/Size Code: IQXO-791; Length: 2.5 mm; Width: 2 mm; Height: 1 mm; Application: Processor; Frequency: 32.768 MHz
footprint WE-SPXO_IQXO-791
pins: 1 Enable, 2 GND, 3 Output, 4 +Vs

## 830208220701
designator Y?, comment 33.3333 MHz
WE-SPXO Simple Packaged Quartz Oscillator, IQXO-791, 33.3333 MHz, 25 ppm, 3.3 V; Manufacturer Part Number: 830208220701; Manufacturer: Wurth Elektronik; Frequency Stability: 25 ppm; Output Logic: CMOS; Supply Voltage: 3.3 V; Category: Oscillators; Match Code: WE-SPXO; ComponentLink1Description: Website Link; ComponentLink1URL: https://www.we-online.com/redexpert/article/830208220701?ad; ComponentLink2Description: Datasheet Link; ComponentLink2URL: https://www.we-online.com/redexpert/spec/830208220701?ad; Mount: Surface Mount; Min Operating Temperature: -20 °C; Max Operating Temperature: 70 °C; Packaging: Tape and Reel; Case/Size Code: IQXO-791; Length: 2.5 mm; Width: 2 mm; Height: 1 mm; Application: Processor; Frequency: 33.3333 MHz
footprint WE-SPXO_IQXO-791
pins: 1 Enable, 2 GND, 3 Output, 4 +Vs

## 830208220901
designator Y?, comment 50 MHz
WE-SPXO Simple Packaged Quartz Oscillator, IQXO-791, 50 MHz, 25 ppm, 3.3 V; Manufacturer Part Number: 830208220901; Manufacturer: Wurth Elektronik; Frequency Stability: 25 ppm; Output Logic: CMOS; Supply Voltage: 3.3 V; Category: Oscillators; Match Code: WE-SPXO; ComponentLink1Description: Website Link; ComponentLink1URL: https://www.we-online.com/redexpert/article/830208220901?ad; ComponentLink2Description: Datasheet Link; ComponentLink2URL: https://www.we-online.com/redexpert/spec/830208220901?ad; Mount: Surface Mount; Min Operating Temperature: -20 °C; Max Operating Temperature: 70 °C; Packaging: Tape and Reel; Case/Size Code: IQXO-791; Length: 2.5 mm; Width: 2 mm; Height: 1 mm; Application: Processor, Ethernet, PCI Express, PHY; Frequency: 50 MHz
footprint WE-SPXO_IQXO-791
pins: 1 Enable, 2 GND, 3 Output, 4 +Vs

## 830208221801
designator Y?, comment 4 MHz
WE-SPXO Simple Packaged Quartz Oscillator, IQXO-794, 4 MHz, 25 ppm, 1.8 V; Manufacturer Part Number: 830208221801; Manufacturer: Wurth Elektronik; Frequency Stability: 25 ppm; Output Logic: CMOS; Supply Voltage: 1.8 V; Category: Oscillators; Match Code: WE-SPXO; ComponentLink1Description: Website Link; ComponentLink1URL: https://www.we-online.com/redexpert/article/830208221801?ad; ComponentLink2Description: Datasheet Link; ComponentLink2URL: https://www.we-online.com/redexpert/spec/830208221801?ad; Mount: Surface Mount; Min Operating Temperature: -20 °C; Max Operating Temperature: 70 °C; Packaging: Tape and Reel; Case/Size Code: IQXO-794; Length: 2.5 mm; Width: 2 mm; Height: 1 mm; Application: CAN, Processor; Frequency: 4 MHz
footprint WE-SPXO_IQXO-794
pins: 1 Enable, 2 GND, 3 Output, 4 +Vs

## 830208221901
designator Y?, comment 8 MHz
WE-SPXO Simple Packaged Quartz Oscillator, IQXO-794, 8 MHz, 25 ppm, 1.8 V; Manufacturer Part Number: 830208221901; Manufacturer: Wurth Elektronik; Frequency Stability: 25 ppm; Output Logic: CMOS; Supply Voltage: 1.8 V; Category: Oscillators; Match Code: WE-SPXO; ComponentLink1Description: Website Link; ComponentLink1URL: https://www.we-online.com/redexpert/article/830208221901?ad; ComponentLink2Description: Datasheet Link; ComponentLink2URL: https://www.we-online.com/redexpert/spec/830208221901?ad; Mount: Surface Mount; Min Operating Temperature: -20 °C; Max Operating Temperature: 70 °C; Packaging: Tape and Reel; Case/Size Code: IQXO-794; Length: 2.5 mm; Width: 2 mm; Height: 1 mm; Application: Processor, UART; Frequency: 8 MHz
footprint WE-SPXO_IQXO-794
pins: 1 Enable, 2 GND, 3 Output, 4 +Vs

## 830208222001
designator Y?, comment 12.288 MHz
WE-SPXO Simple Packaged Quartz Oscillator, IQXO-794, 12.288 MHz, 25 ppm, 1.8 V; Manufacturer Part Number: 830208222001; Manufacturer: Wurth Elektronik; Frequency Stability: 25 ppm; Output Logic: CMOS; Supply Voltage: 1.8 V; Category: Oscillators; Match Code: WE-SPXO; ComponentLink1Description: Website Link; ComponentLink1URL: https://www.we-online.com/redexpert/article/830208222001?ad; ComponentLink2Description: Datasheet Link; ComponentLink2URL: https://www.we-online.com/redexpert/spec/830208222001?ad; Mount: Surface Mount; Min Operating Temperature: -20 °C; Max Operating Temperature: 70 °C; Packaging: Tape and Reel; Case/Size Code: IQXO-794; Length: 2.5 mm; Width: 2 mm; Height: 1 mm; Application: UART, Audio; Frequency: 12.288 MHz
footprint WE-SPXO_IQXO-794
pins: 1 Enable, 2 GND, 3 Output, 4 +Vs

## 830208222101
designator Y?, comment 16 MHz
WE-SPXO Simple Packaged Quartz Oscillator, IQXO-794, 16 MHz, 25 ppm, 1.8 V; Manufacturer Part Number: 830208222101; Manufacturer: Wurth Elektronik; Frequency Stability: 25 ppm; Output Logic: CMOS; Supply Voltage: 1.8 V; Category: Oscillators; Match Code: WE-SPXO; ComponentLink1Description: Website Link; ComponentLink1URL: https://www.we-online.com/redexpert/article/830208222101?ad; ComponentLink2Description: Datasheet Link; ComponentLink2URL: https://www.we-online.com/redexpert/spec/830208222101?ad; Mount: Surface Mount; Min Operating Temperature: -20 °C; Max Operating Temperature: 70 °C; Packaging: Tape and Reel; Case/Size Code: IQXO-794; Length: 2.5 mm; Width: 2 mm; Height: 1 mm; Application: Processor, CAN, Bluetooth; Frequency: 16 MHz
footprint WE-SPXO_IQXO-794
pins: 1 Enable, 2 GND, 3 Output, 4 +Vs

## 830208222201
designator Y?, comment 19.2 MHz
WE-SPXO Simple Packaged Quartz Oscillator, IQXO-794, 19.2 MHz, 25 ppm, 1.8 V; Manufacturer Part Number: 830208222201; Manufacturer: Wurth Elektronik; Frequency Stability: 25 ppm; Output Logic: CMOS; Supply Voltage: 1.8 V; Category: Oscillators; Match Code: WE-SPXO; ComponentLink1Description: Website Link; ComponentLink1URL: https://www.we-online.com/redexpert/article/830208222201?ad; ComponentLink2Description: Datasheet Link; ComponentLink2URL: https://www.we-online.com/redexpert/spec/830208222201?ad; Mount: Surface Mount; Min Operating Temperature: -20 °C; Max Operating Temperature: 70 °C; Packaging: Tape and Reel; Case/Size Code: IQXO-794; Length: 2.5 mm; Width: 2 mm; Height: 1 mm; Application: UART, 3G/4G/5G, Small Cell; Frequency: 19.2 MHz
footprint WE-SPXO_IQXO-794
pins: 1 Enable, 2 GND, 3 Output, 4 +Vs